# Altium integrated library Linear Technology Power Management Battery Management.IntLib: 626 symbols (part 43 of 56)
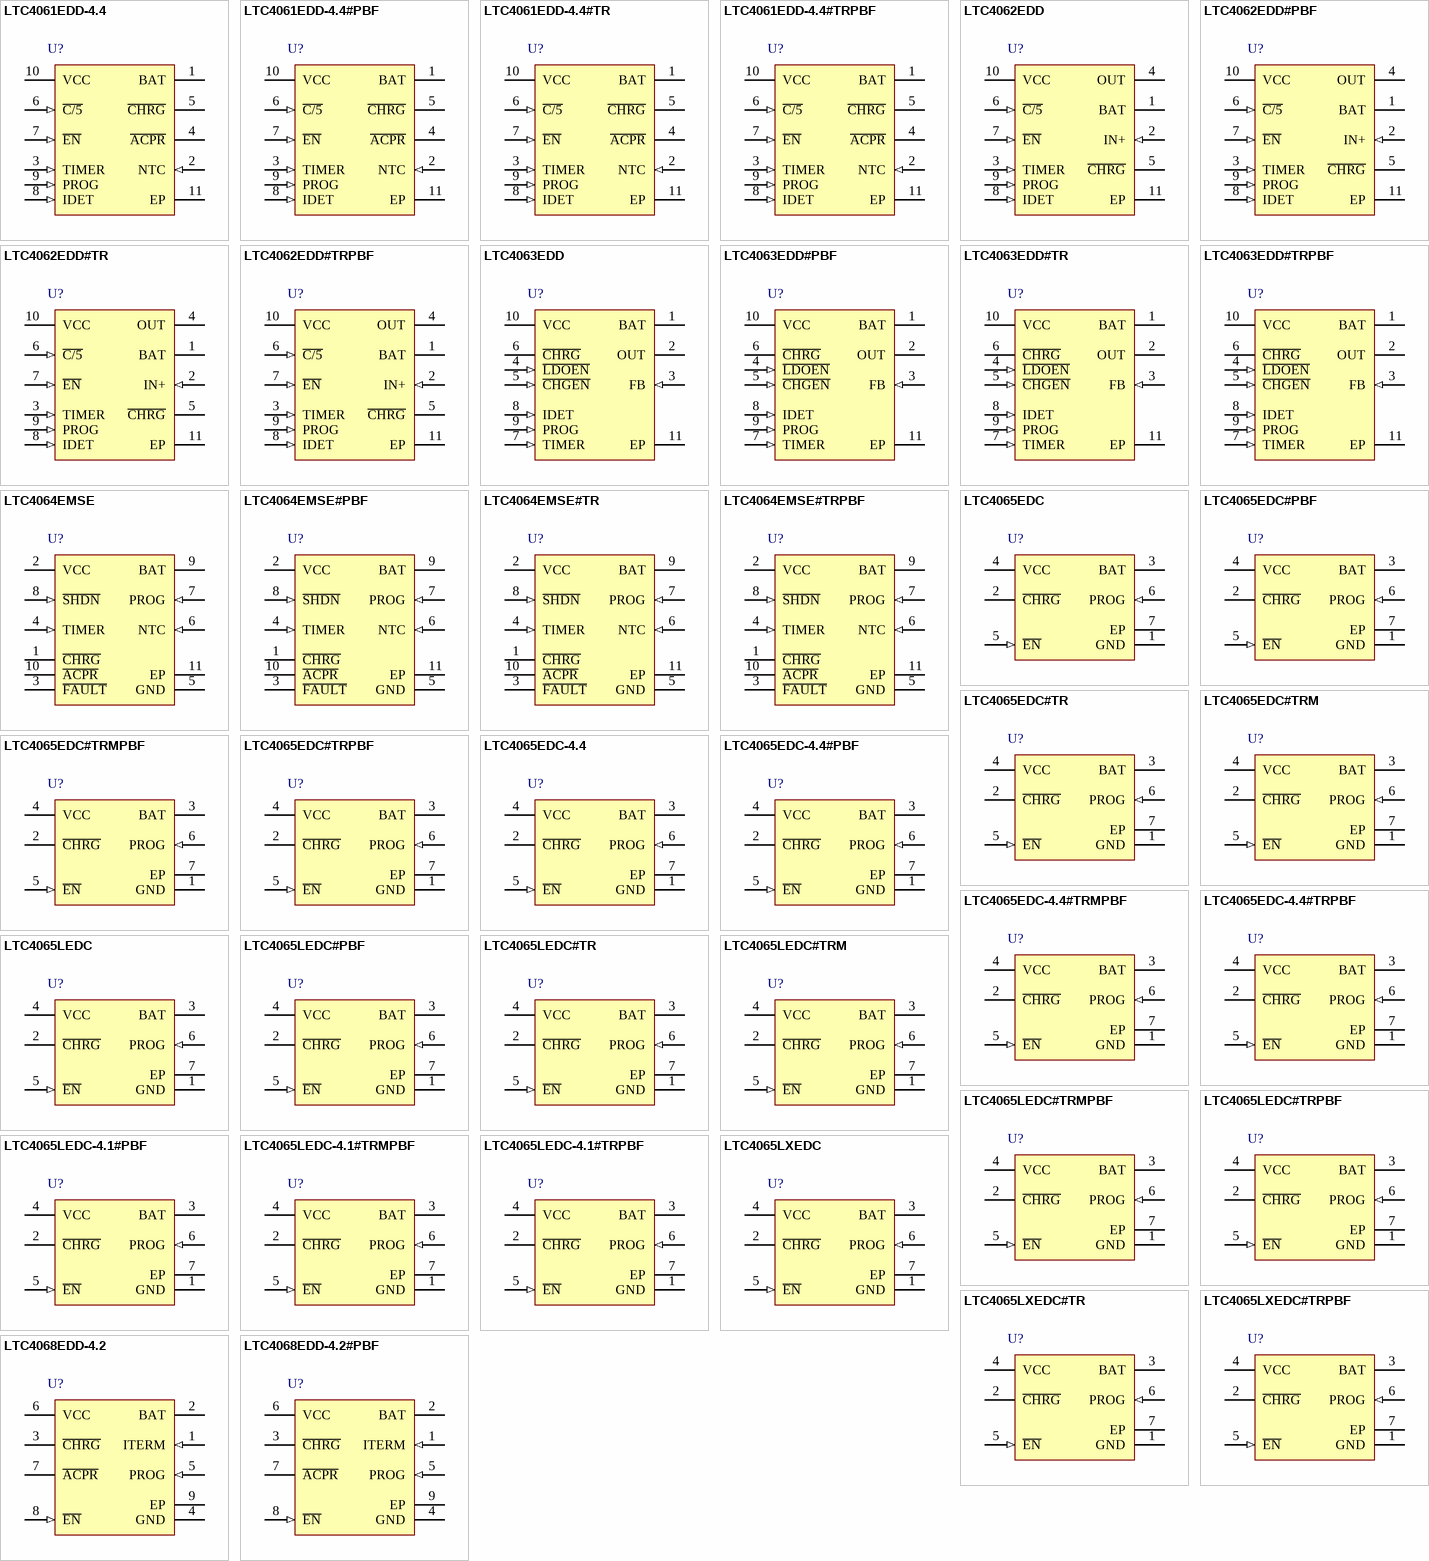
[diagram p64: symbols LTC4061EDD-4.4 to LTC4068EDD-4.2#PBF]

## LTC4062EDD#PBF
designator U?
Standalone Linear Li-Ion Battery Charger with Micropower Comparator, 4.3 to 8 V Vin, 10-pin SON (DD-10), -40 to 85 degC, Pb-Free; Manufacturer: Linear Technology; PartNumber: LTC4062EDD#PBF; Battery Chemistry: Li-Ion, Li-Polymer; Charge Termination: C/x, On-board timer, External; Float Voltage: 4.2 V; Max Charge Current(A): 1; Vin Max(V): 8; Vin Min(V): 4.3; DatasheetVersion: Rev. B; PackageVersion: Rev. C, 06/2010; PackageReference: DD-10; PackageDescription: 10-Pin Plastic DFN, Body 3 x 3 mm, Pitch 0.5 mm; Supplier 1: Digi-Key; Supplier Part Number 1: LTC4062EDD#PBF-ND; Supplier 2: Farnell; Supplier Part Number 2: 1648037; Supplier 3: Newark; Supplier Part Number 3: 58M0900; Number of Cells: 1; RoHS: TRUE; Type of Charger: Linear; Mounting Technology: Surface Mount; Code_JEDEC: MO-229; ComponentLink1Description: Manufacturer URL; ComponentLink1URL: http://www.linear.com/; ComponentLink2Description: Datasheet; ComponentLink2URL: http://cds.linear.com/docs/en/datasheet/4062fb.pdf; ComponentLink3Description: Package Specification; ComponentLink3URL: http://cds.linear.com/docs/en/packaging/DFN_10_05-08-1699.pdf
footprint LT-DD-10_V (SON, 10-Leads, Body 3x3mm, Pitch 0.5mm, Thermal Pad 2.38x1.65mm)
pins: 1 BAT (power) "Charge Current Output. This pin provides charge current to the battery and regulates the final float voltage to 4.2V.", 2 IN+ (in) "Positive Input of the Micropower Comparator. The negative input is tied internally to a precise bandgap voltage reference of 1V. There is approximately 50mV of hysteresis associated with the input comparator threshold (See Datasheet)", 3 TIMER (in) "Timer Program and Termination Select Pin. This pin selects which method is used to terminate the charge cycle. Connecting a capacitor, CTIMER, to ground selects charge time termination.", 4 OUT (hiz) "Low Power Comparator Open-Drain Output. This comparator output pin has two states; pull-down and high impedance. This output can be used as a logic interface or as an LED driver. In the pull-down state, an NMOS transistor (See Datasheet)", 5 ~{CHRG} (hiz) "Open-Drain Charge Status Output. The charge status indicator pin has three states: pull-down, pulse at 6Hz and high impedance. This output can be used as a logic interface or as a LED driver. In the pull-down state, an NMOS (See Datasheet)", 6 ~{C/5} (in) "C\/\5\ Enable Input. Used to control the amount of current drawn by the charger when powered from a USB port. A logic high on the C\/\5\ pin sets the current limit to 100% of the current programmed by the PROG pin. A logic (See Datasheet)", 7 ~{EN} (in) "Charger Enable Input. A logic high on the E\N\ pin places the charger into shutdown mode, where the input quiescent current is less than 50uA. A logic low on this pin enables charging. An internal 3Mohm pull-down resistor to (See Datasheet)", 8 IDET (in) "Current Detection Threshold Program Pin. The current detection threshold, IDETECT, is set by connecting a resistor, RDETECT, to ground.", 9 PROG (in) "Charge Current Program and Charge Current Monitor. The charge current is set by connecting a resistor, RPROG, to ground. When charging in constant current mode, this pin servos to 1V.", 10 VCC (power) "Positive Input Supply Voltage. Provides power to the battery charger. This pin should be bypassed with a 1uF capacitor.", 11 EP (power) "Ground. This pin is the back of the exposed metal pad package and must be soldered to the PCB copper for minimal thermal resistance."

## LTC4062EDD#TR
designator U?
Standalone Linear Li-Ion Battery Charger with Micropower Comparator, 4.3 to 8 V Vin, 10-pin SON (DD-10), -40 to 85 degC, Tape and Reel; Manufacturer: Linear Technology; PartNumber: LTC4062EDD#TR; Battery Chemistry: Li-Ion, Li-Polymer; Charge Termination: C/x, On-board timer, External; Float Voltage: 4.2 V; Max Charge Current(A): 1; Vin Max(V): 8; Vin Min(V): 4.3; DatasheetVersion: Rev. B; PackageVersion: Rev. C, 06/2010; PackageReference: DD-10; PackageDescription: 10-Pin Plastic DFN, Body 3 x 3 mm, Pitch 0.5 mm; Number of Cells: 1; Packing: Tape and Reel; RoHS: FALSE; Type of Charger: Linear; Mounting Technology: Surface Mount; Code_JEDEC: MO-229; ComponentLink1Description: Manufacturer URL; ComponentLink1URL: http://www.linear.com/; ComponentLink2Description: Datasheet; ComponentLink2URL: http://cds.linear.com/docs/en/datasheet/4062fb.pdf; ComponentLink3Description: Package Specification; ComponentLink3URL: http://cds.linear.com/docs/en/packaging/DFN_10_05-08-1699.pdf
footprint LT-DD-10_V (SON, 10-Leads, Body 3x3mm, Pitch 0.5mm, Thermal Pad 2.38x1.65mm)
pins: 1 BAT (power) "Charge Current Output. This pin provides charge current to the battery and regulates the final float voltage to 4.2V.", 2 IN+ (in) "Positive Input of the Micropower Comparator. The negative input is tied internally to a precise bandgap voltage reference of 1V. There is approximately 50mV of hysteresis associated with the input comparator threshold (See Datasheet)", 3 TIMER (in) "Timer Program and Termination Select Pin. This pin selects which method is used to terminate the charge cycle. Connecting a capacitor, CTIMER, to ground selects charge time termination.", 4 OUT (hiz) "Low Power Comparator Open-Drain Output. This comparator output pin has two states; pull-down and high impedance. This output can be used as a logic interface or as an LED driver. In the pull-down state, an NMOS transistor (See Datasheet)", 5 ~{CHRG} (hiz) "Open-Drain Charge Status Output. The charge status indicator pin has three states: pull-down, pulse at 6Hz and high impedance. This output can be used as a logic interface or as a LED driver. In the pull-down state, an NMOS (See Datasheet)", 6 ~{C/5} (in) "C\/\5\ Enable Input. Used to control the amount of current drawn by the charger when powered from a USB port. A logic high on the C\/\5\ pin sets the current limit to 100% of the current programmed by the PROG pin. A logic (See Datasheet)", 7 ~{EN} (in) "Charger Enable Input. A logic high on the E\N\ pin places the charger into shutdown mode, where the input quiescent current is less than 50uA. A logic low on this pin enables charging. An internal 3Mohm pull-down resistor to (See Datasheet)", 8 IDET (in) "Current Detection Threshold Program Pin. The current detection threshold, IDETECT, is set by connecting a resistor, RDETECT, to ground.", 9 PROG (in) "Charge Current Program and Charge Current Monitor. The charge current is set by connecting a resistor, RPROG, to ground. When charging in constant current mode, this pin servos to 1V.", 10 VCC (power) "Positive Input Supply Voltage. Provides power to the battery charger. This pin should be bypassed with a 1uF capacitor.", 11 EP (power) "Ground. This pin is the back of the exposed metal pad package and must be soldered to the PCB copper for minimal thermal resistance."

## LTC4062EDD#TRPBF
designator U?
Standalone Linear Li-Ion Battery Charger with Micropower Comparator, 4.3 to 8 V Vin, 10-pin SON (DD-10), -40 to 85 degC, Pb-Free, Tape and Reel; Manufacturer: Linear Technology; PartNumber: LTC4062EDD#TRPBF; Battery Chemistry: Li-Ion, Li-Polymer; Charge Termination: C/x, On-board timer, External; Float Voltage: 4.2 V; Max Charge Current(A): 1; Vin Max(V): 8; Vin Min(V): 4.3; DatasheetVersion: Rev. B; PackageVersion: Rev. C, 06/2010; PackageReference: DD-10; PackageDescription: 10-Pin Plastic DFN, Body 3 x 3 mm, Pitch 0.5 mm; Supplier 1: Digi-Key; Supplier Part Number 1: LTC4062EDD#TRPBF-ND; Number of Cells: 1; Packing: Tape and Reel; RoHS: TRUE; Type of Charger: Linear; Mounting Technology: Surface Mount; Code_JEDEC: MO-229; ComponentLink1Description: Manufacturer URL; ComponentLink1URL: http://www.linear.com/; ComponentLink2Description: Datasheet; ComponentLink2URL: http://cds.linear.com/docs/en/datasheet/4062fb.pdf; ComponentLink3Description: Package Specification; ComponentLink3URL: http://cds.linear.com/docs/en/packaging/DFN_10_05-08-1699.pdf
footprint LT-DD-10_V (SON, 10-Leads, Body 3x3mm, Pitch 0.5mm, Thermal Pad 2.38x1.65mm)
pins: 1 BAT (power) "Charge Current Output. This pin provides charge current to the battery and regulates the final float voltage to 4.2V.", 2 IN+ (in) "Positive Input of the Micropower Comparator. The negative input is tied internally to a precise bandgap voltage reference of 1V. There is approximately 50mV of hysteresis associated with the input comparator threshold (See Datasheet)", 3 TIMER (in) "Timer Program and Termination Select Pin. This pin selects which method is used to terminate the charge cycle. Connecting a capacitor, CTIMER, to ground selects charge time termination.", 4 OUT (hiz) "Low Power Comparator Open-Drain Output. This comparator output pin has two states; pull-down and high impedance. This output can be used as a logic interface or as an LED driver. In the pull-down state, an NMOS transistor (See Datasheet)", 5 ~{CHRG} (hiz) "Open-Drain Charge Status Output. The charge status indicator pin has three states: pull-down, pulse at 6Hz and high impedance. This output can be used as a logic interface or as a LED driver. In the pull-down state, an NMOS (See Datasheet)", 6 ~{C/5} (in) "C\/\5\ Enable Input. Used to control the amount of current drawn by the charger when powered from a USB port. A logic high on the C\/\5\ pin sets the current limit to 100% of the current programmed by the PROG pin. A logic (See Datasheet)", 7 ~{EN} (in) "Charger Enable Input. A logic high on the E\N\ pin places the charger into shutdown mode, where the input quiescent current is less than 50uA. A logic low on this pin enables charging. An internal 3Mohm pull-down resistor to (See Datasheet)", 8 IDET (in) "Current Detection Threshold Program Pin. The current detection threshold, IDETECT, is set by connecting a resistor, RDETECT, to ground.", 9 PROG (in) "Charge Current Program and Charge Current Monitor. The charge current is set by connecting a resistor, RPROG, to ground. When charging in constant current mode, this pin servos to 1V.", 10 VCC (power) "Positive Input Supply Voltage. Provides power to the battery charger. This pin should be bypassed with a 1uF capacitor.", 11 EP (power) "Ground. This pin is the back of the exposed metal pad package and must be soldered to the PCB copper for minimal thermal resistance."

## LTC4063EDD
designator U?
Standalone Linear Li-Ion Charger with Micropower Low Dropout Linear Regulator, 4.3 to 8 V Vin, 10-pin SON (DD-10), -40 to 85 degC; Manufacturer: Linear Technology; PartNumber: LTC4063EDD; Battery Chemistry: Li-Ion, Li-Polymer; Charge Termination: On-board timer; Float Voltage: 4.2 V; Max Charge Current(A): 1; Vin Max(V): 8; Vin Min(V): 4.3; DatasheetVersion: Rev. C; PackageVersion: Rev. C, 06/2010; PackageReference: DD-10; PackageDescription: 10-Pin Plastic DFN, Body 3 x 3 mm, Pitch 0.5 mm; Supplier 1: Digi-Key; Supplier Part Number 1: LTC4063EDD-ND; Number of Cells: 1; RoHS: FALSE; Type of Charger: Linear; Mounting Technology: Surface Mount; Code_JEDEC: MO-229; ComponentLink1Description: Manufacturer URL; ComponentLink1URL: http://www.linear.com/; ComponentLink2Description: Datasheet; ComponentLink2URL: http://cds.linear.com/docs/en/datasheet/4063fc.pdf; ComponentLink3Description: Package Specification; ComponentLink3URL: http://cds.linear.com/docs/en/packaging/DFN_10_05-08-1699.pdf
footprint LT-DD-10_V (SON, 10-Leads, Body 3x3mm, Pitch 0.5mm, Thermal Pad 2.38x1.65mm)
pins: 1 BAT (power) "Charger Output and Regulator Input. This pin provides charge current to the battery and regulates the final float voltage to 4.2V. This pin also supplies power to the LDO regulator.", 2 OUT (power) "LDO Regulator Output. This pin should be bypassed with a >=2uF low ESR capacitor as close to the pin as possible for best performance. The minimum VOUT is 1.2V.", 3 FB (in) "Regulator Feedback Input. The voltage on this pin is compared to the internal reference voltage (800mV) by the error amplifier to keep the output voltage in regulation. An external resistor divider between OUT and FB sets (See Datasheet)", 4 ~{LDOEN} (in) "LDO Enable Input. A logic high on the L\D\O\E\N\ pin shuts down the LDO. In this state, OUT becomes high impedance and the battery drain current drops to less than 5uA. A logic low on the L\D\O\E\N\ pin enables the LDO (See Datasheet)", 5 ~{CHGEN} (in) "Charger Enable Input. A logic high on the C\H\G\E\N\ pin places the charger into shutdown mode, where the ICC quiescent current is less than 65uA. A logic low on this pin enables battery charging. A 2M pull-down resistor to (See Datasheet)", 6 ~{CHRG} (hiz) "Open-Drain Charge Status Output. The charge status indicator pin has two states: pull-down and high impedance. This output can be used as a logic interface or an LED driver. In the pull-down state, an NMOS transistor capable (See Datasheet)", 7 TIMER (in) "Timer Program and Termination Select Pin. This pin selects which method is used to terminate the charge cycle. Connecting a capacitor, CTIMER, to ground selects Charge Time termination.", 8 IDET (in) "Current Detection Threshold Program Pin. The current detection threshold, IDETECT, is set by connecting a resistor, RDET, to ground.", 9 PROG (in) "Charge Current Program and Charge Current Monitor. The charge current is set by connecting a resistor, RPROG, to ground. When charging in constant current mode, this pin servos to 1V.", 10 VCC (power) "Positive Input Supply Pin. Provides power to the battery charger. This pin should be bypassed with a 1uF capacitor.", 11 EP (power) "Ground. This pin is the back of the Exposed Pad package and must be soldered to the PCB copper for minimal thermal resistance."

## LTC4063EDD#PBF
designator U?
Standalone Linear Li-Ion Charger with Micropower Low Dropout Linear Regulator, 4.3 to 8 V Vin, 10-pin SON (DD-10), -40 to 85 degC, Pb-Free; Manufacturer: Linear Technology; PartNumber: LTC4063EDD#PBF; Battery Chemistry: Li-Ion, Li-Polymer; Charge Termination: On-board timer; Float Voltage: 4.2 V; Max Charge Current(A): 1; Vin Max(V): 8; Vin Min(V): 4.3; DatasheetVersion: Rev. C; PackageVersion: Rev. C, 06/2010; PackageReference: DD-10; PackageDescription: 10-Pin Plastic DFN, Body 3 x 3 mm, Pitch 0.5 mm; Supplier 1: Digi-Key; Supplier Part Number 1: LTC4063EDD#PBF-ND; Supplier 2: Farnell; Supplier Part Number 2: 1648038; Supplier 3: Newark; Supplier Part Number 3: 56M8674; Number of Cells: 1; RoHS: TRUE; Type of Charger: Linear; Mounting Technology: Surface Mount; Code_JEDEC: MO-229; ComponentLink1Description: Manufacturer URL; ComponentLink1URL: http://www.linear.com/; ComponentLink2Description: Datasheet; ComponentLink2URL: http://cds.linear.com/docs/en/datasheet/4063fc.pdf; ComponentLink3Description: Package Specification; ComponentLink3URL: http://cds.linear.com/docs/en/packaging/DFN_10_05-08-1699.pdf
footprint LT-DD-10_V (SON, 10-Leads, Body 3x3mm, Pitch 0.5mm, Thermal Pad 2.38x1.65mm)
pins: 1 BAT (power) "Charger Output and Regulator Input. This pin provides charge current to the battery and regulates the final float voltage to 4.2V. This pin also supplies power to the LDO regulator.", 2 OUT (power) "LDO Regulator Output. This pin should be bypassed with a >=2uF low ESR capacitor as close to the pin as possible for best performance. The minimum VOUT is 1.2V.", 3 FB (in) "Regulator Feedback Input. The voltage on this pin is compared to the internal reference voltage (800mV) by the error amplifier to keep the output voltage in regulation. An external resistor divider between OUT and FB sets (See Datasheet)", 4 ~{LDOEN} (in) "LDO Enable Input. A logic high on the L\D\O\E\N\ pin shuts down the LDO. In this state, OUT becomes high impedance and the battery drain current drops to less than 5uA. A logic low on the L\D\O\E\N\ pin enables the LDO (See Datasheet)", 5 ~{CHGEN} (in) "Charger Enable Input. A logic high on the C\H\G\E\N\ pin places the charger into shutdown mode, where the ICC quiescent current is less than 65uA. A logic low on this pin enables battery charging. A 2M pull-down resistor to (See Datasheet)", 6 ~{CHRG} (hiz) "Open-Drain Charge Status Output. The charge status indicator pin has two states: pull-down and high impedance. This output can be used as a logic interface or an LED driver. In the pull-down state, an NMOS transistor capable (See Datasheet)", 7 TIMER (in) "Timer Program and Termination Select Pin. This pin selects which method is used to terminate the charge cycle. Connecting a capacitor, CTIMER, to ground selects Charge Time termination.", 8 IDET (in) "Current Detection Threshold Program Pin. The current detection threshold, IDETECT, is set by connecting a resistor, RDET, to ground.", 9 PROG (in) "Charge Current Program and Charge Current Monitor. The charge current is set by connecting a resistor, RPROG, to ground. When charging in constant current mode, this pin servos to 1V.", 10 VCC (power) "Positive Input Supply Pin. Provides power to the battery charger. This pin should be bypassed with a 1uF capacitor.", 11 EP (power) "Ground. This pin is the back of the Exposed Pad package and must be soldered to the PCB copper for minimal thermal resistance."

## LTC4063EDD#TR
designator U?
Standalone Linear Li-Ion Charger with Micropower Low Dropout Linear Regulator, 4.3 to 8 V Vin, 10-pin SON (DD-10), -40 to 85 degC, Tape and Reel; Manufacturer: Linear Technology; PartNumber: LTC4063EDD#TR; Battery Chemistry: Li-Ion, Li-Polymer; Charge Termination: On-board timer; Float Voltage: 4.2 V; Max Charge Current(A): 1; Vin Max(V): 8; Vin Min(V): 4.3; DatasheetVersion: Rev. C; PackageVersion: Rev. C, 06/2010; PackageReference: DD-10; PackageDescription: 10-Pin Plastic DFN, Body 3 x 3 mm, Pitch 0.5 mm; Number of Cells: 1; Packing: Tape and Reel; RoHS: FALSE; Type of Charger: Linear; Mounting Technology: Surface Mount; Code_JEDEC: MO-229; ComponentLink1Description: Manufacturer URL; ComponentLink1URL: http://www.linear.com/; ComponentLink2Description: Datasheet; ComponentLink2URL: http://cds.linear.com/docs/en/datasheet/4063fc.pdf; ComponentLink3Description: Package Specification; ComponentLink3URL: http://cds.linear.com/docs/en/packaging/DFN_10_05-08-1699.pdf
footprint LT-DD-10_V (SON, 10-Leads, Body 3x3mm, Pitch 0.5mm, Thermal Pad 2.38x1.65mm)
pins: 1 BAT (power) "Charger Output and Regulator Input. This pin provides charge current to the battery and regulates the final float voltage to 4.2V. This pin also supplies power to the LDO regulator.", 2 OUT (power) "LDO Regulator Output. This pin should be bypassed with a >=2uF low ESR capacitor as close to the pin as possible for best performance. The minimum VOUT is 1.2V.", 3 FB (in) "Regulator Feedback Input. The voltage on this pin is compared to the internal reference voltage (800mV) by the error amplifier to keep the output voltage in regulation. An external resistor divider between OUT and FB sets (See Datasheet)", 4 ~{LDOEN} (in) "LDO Enable Input. A logic high on the L\D\O\E\N\ pin shuts down the LDO. In this state, OUT becomes high impedance and the battery drain current drops to less than 5uA. A logic low on the L\D\O\E\N\ pin enables the LDO (See Datasheet)", 5 ~{CHGEN} (in) "Charger Enable Input. A logic high on the C\H\G\E\N\ pin places the charger into shutdown mode, where the ICC quiescent current is less than 65uA. A logic low on this pin enables battery charging. A 2M pull-down resistor to (See Datasheet)", 6 ~{CHRG} (hiz) "Open-Drain Charge Status Output. The charge status indicator pin has two states: pull-down and high impedance. This output can be used as a logic interface or an LED driver. In the pull-down state, an NMOS transistor capable (See Datasheet)", 7 TIMER (in) "Timer Program and Termination Select Pin. This pin selects which method is used to terminate the charge cycle. Connecting a capacitor, CTIMER, to ground selects Charge Time termination.", 8 IDET (in) "Current Detection Threshold Program Pin. The current detection threshold, IDETECT, is set by connecting a resistor, RDET, to ground.", 9 PROG (in) "Charge Current Program and Charge Current Monitor. The charge current is set by connecting a resistor, RPROG, to ground. When charging in constant current mode, this pin servos to 1V.", 10 VCC (power) "Positive Input Supply Pin. Provides power to the battery charger. This pin should be bypassed with a 1uF capacitor.", 11 EP (power) "Ground. This pin is the back of the Exposed Pad package and must be soldered to the PCB copper for minimal thermal resistance."

## LTC4063EDD#TRPBF
designator U?
Standalone Linear Li-Ion Charger with Micropower Low Dropout Linear Regulator, 4.3 to 8 V Vin, 10-pin SON (DD-10), -40 to 85 degC, Pb-Free, Tape and Reel; Manufacturer: Linear Technology; PartNumber: LTC4063EDD#TRPBF; Battery Chemistry: Li-Ion, Li-Polymer; Charge Termination: On-board timer; Float Voltage: 4.2 V; Max Charge Current(A): 1; Vin Max(V): 8; Vin Min(V): 4.3; DatasheetVersion: Rev. C; PackageVersion: Rev. C, 06/2010; PackageReference: DD-10; PackageDescription: 10-Pin Plastic DFN, Body 3 x 3 mm, Pitch 0.5 mm; Supplier 1: Digi-Key; Supplier Part Number 1: LTC4063EDD#TRPBF-ND; Number of Cells: 1; Packing: Tape and Reel; RoHS: TRUE; Type of Charger: Linear; Mounting Technology: Surface Mount; Code_JEDEC: MO-229; ComponentLink1Description: Manufacturer URL; ComponentLink1URL: http://www.linear.com/; ComponentLink2Description: Datasheet; ComponentLink2URL: http://cds.linear.com/docs/en/datasheet/4063fc.pdf; ComponentLink3Description: Package Specification; ComponentLink3URL: http://cds.linear.com/docs/en/packaging/DFN_10_05-08-1699.pdf
footprint LT-DD-10_V (SON, 10-Leads, Body 3x3mm, Pitch 0.5mm, Thermal Pad 2.38x1.65mm)
pins: 1 BAT (power) "Charger Output and Regulator Input. This pin provides charge current to the battery and regulates the final float voltage to 4.2V. This pin also supplies power to the LDO regulator.", 2 OUT (power) "LDO Regulator Output. This pin should be bypassed with a >=2uF low ESR capacitor as close to the pin as possible for best performance. The minimum VOUT is 1.2V.", 3 FB (in) "Regulator Feedback Input. The voltage on this pin is compared to the internal reference voltage (800mV) by the error amplifier to keep the output voltage in regulation. An external resistor divider between OUT and FB sets (See Datasheet)", 4 ~{LDOEN} (in) "LDO Enable Input. A logic high on the L\D\O\E\N\ pin shuts down the LDO. In this state, OUT becomes high impedance and the battery drain current drops to less than 5uA. A logic low on the L\D\O\E\N\ pin enables the LDO (See Datasheet)", 5 ~{CHGEN} (in) "Charger Enable Input. A logic high on the C\H\G\E\N\ pin places the charger into shutdown mode, where the ICC quiescent current is less than 65uA. A logic low on this pin enables battery charging. A 2M pull-down resistor to (See Datasheet)", 6 ~{CHRG} (hiz) "Open-Drain Charge Status Output. The charge status indicator pin has two states: pull-down and high impedance. This output can be used as a logic interface or an LED driver. In the pull-down state, an NMOS transistor capable (See Datasheet)", 7 TIMER (in) "Timer Program and Termination Select Pin. This pin selects which method is used to terminate the charge cycle. Connecting a capacitor, CTIMER, to ground selects Charge Time termination.", 8 IDET (in) "Current Detection Threshold Program Pin. The current detection threshold, IDETECT, is set by connecting a resistor, RDET, to ground.", 9 PROG (in) "Charge Current Program and Charge Current Monitor. The charge current is set by connecting a resistor, RPROG, to ground. When charging in constant current mode, this pin servos to 1V.", 10 VCC (power) "Positive Input Supply Pin. Provides power to the battery charger. This pin should be bypassed with a 1uF capacitor.", 11 EP (power) "Ground. This pin is the back of the Exposed Pad package and must be soldered to the PCB copper for minimal thermal resistance."

## LTC4064EMSE
designator U?
Monolithic Linear Charger for Back-Up Li-Ion Battery, 4.25 to 6.5 V Vin, 10-pin SOP (MSE-10-EDP), -40 to 85 degC; Manufacturer: Linear Technology; PartNumber: LTC4064EMSE; Battery Chemistry: Li-Ion, Li-Polymer; Charge Termination: On-board timer; Float Voltage: 4.2 V; Max Charge Current(A): 1; Vin Max(V): 6.5; Vin Min(V): 4.25; PackageVersion: Rev. C, 08/2009; PackageReference: MSE-10; PackageDescription: 10-Pin Plastic MSOP, Exposed Die Pad, Body 3 x 3 mm, Pitch 0.5 mm; Supplier 1: Digi-Key; Supplier Part Number 1: LTC4064EMSE-ND; Number of Cells: 1; RoHS: FALSE; Type of Charger: Linear; Mounting Technology: Surface Mount; ComponentLink1Description: Manufacturer URL; ComponentLink1URL: http://www.linear.com/; ComponentLink2Description: Datasheet; ComponentLink2URL: http://cds.linear.com/docs/en/datasheet/4064fs.pdf; ComponentLink3Description: Package Specification; ComponentLink3URL: http://cds.linear.com/docs/en/datasheet/3481fc.pdf
footprint LT-MSE-10-EDP-2060x1830TP_N (SOP, 10-Leads, Body 3.1x3.1mm, Pitch 0.5mm, Thermal Pad 2.17x1.94mm, IPC Medium Density)
footprint LT-MSE-10-EDP-2060x1830TP_L (SOP, 10-Leads, Body 3.1x3.1mm, Pitch 0.5mm, Thermal Pad 2.17x1.94mm, IPC High Density)
footprint LT-MSE-10-EDP-2060x1830TP_M (SOP, 10-Leads, Body 3.1x3.1mm, Pitch 0.5mm, Thermal Pad 2.17x1.94mm, IPC Low Density)
pins: 1 ~{CHRG} (hiz) "Open-Drain Charge Status Output. When the battery is being charged, the C\H\R\G\ pin is pulled low by an internal N-channel MOSFET. When the charge current drops to 10% of the full-scale current, the N-channel MOSFET latches (See Datasheet)", 2 VCC (power), 3 ~{FAULT} (oc), 4 TIMER (in), 5 GND (power) "Ground. The exposed backside of the package is also ground and must be soldered to the PC board for maximum heat transfer.", 6 NTC (in), 7 PROG (in), 8 ~{SHDN} (in), 9 BAT (power) "Charge Current Output. A bypass capacitor of at least 1uF with a 1ohm series resistor is required to keep the loop stable when the battery is not present. A precision internal resistor divider sets the final float potential (See Datasheet)", 10 ~{ACPR} (hiz) "Open-Drain Power Supply Status Output. When VCC is greater than the undervoltage lockout threshold and at least 35mV above VBAT, the A\C\P\R\ pin will pull to ground. Otherwise, the pin is high impedance.", 11 EP (power) "Ground. The exposed backside of the package is also ground and must be soldered to the PC board for maximum heat transfer."

## LTC4064EMSE#PBF
designator U?
Monolithic Linear Charger for Back-Up Li-Ion Battery, 4.25 to 6.5 V Vin, 10-pin SOP (MSE-10-EDP), -40 to 85 degC, Pb-Free; Manufacturer: Linear Technology; PartNumber: LTC4064EMSE#PBF; Battery Chemistry: Li-Ion, Li-Polymer; Charge Termination: On-board timer; Float Voltage: 4.2 V; Max Charge Current(A): 1; Vin Max(V): 6.5; Vin Min(V): 4.25; PackageVersion: Rev. C, 08/2009; PackageReference: MSE-10; PackageDescription: 10-Pin Plastic MSOP, Exposed Die Pad, Body 3 x 3 mm, Pitch 0.5 mm; Supplier 1: Digi-Key; Supplier Part Number 1: LTC4064EMSE#PBF-ND; Supplier 2: Farnell; Supplier Part Number 2: 1648039; Supplier 3: Newark; Supplier Part Number 3: 58M0904; Number of Cells: 1; RoHS: TRUE; Type of Charger: Linear; Mounting Technology: Surface Mount; ComponentLink1Description: Manufacturer URL; ComponentLink1URL: http://www.linear.com/; ComponentLink2Description: Datasheet; ComponentLink2URL: http://cds.linear.com/docs/en/datasheet/4064fs.pdf; ComponentLink3Description: Package Specification; ComponentLink3URL: http://cds.linear.com/docs/en/datasheet/3481fc.pdf
footprint LT-MSE-10-EDP-2060x1830TP_N (SOP, 10-Leads, Body 3.1x3.1mm, Pitch 0.5mm, Thermal Pad 2.17x1.94mm, IPC Medium Density)
footprint LT-MSE-10-EDP-2060x1830TP_L (SOP, 10-Leads, Body 3.1x3.1mm, Pitch 0.5mm, Thermal Pad 2.17x1.94mm, IPC High Density)
footprint LT-MSE-10-EDP-2060x1830TP_M (SOP, 10-Leads, Body 3.1x3.1mm, Pitch 0.5mm, Thermal Pad 2.17x1.94mm, IPC Low Density)
pins: 1 ~{CHRG} (hiz) "Open-Drain Charge Status Output. When the battery is being charged, the C\H\R\G\ pin is pulled low by an internal N-channel MOSFET. When the charge current drops to 10% of the full-scale current, the N-channel MOSFET latches (See Datasheet)", 2 VCC (power), 3 ~{FAULT} (oc), 4 TIMER (in), 5 GND (power) "Ground. The exposed backside of the package is also ground and must be soldered to the PC board for maximum heat transfer.", 6 NTC (in), 7 PROG (in), 8 ~{SHDN} (in), 9 BAT (power) "Charge Current Output. A bypass capacitor of at least 1uF with a 1ohm series resistor is required to keep the loop stable when the battery is not present. A precision internal resistor divider sets the final float potential (See Datasheet)", 10 ~{ACPR} (hiz) "Open-Drain Power Supply Status Output. When VCC is greater than the undervoltage lockout threshold and at least 35mV above VBAT, the A\C\P\R\ pin will pull to ground. Otherwise, the pin is high impedance.", 11 EP (power) "Ground. The exposed backside of the package is also ground and must be soldered to the PC board for maximum heat transfer."

## LTC4064EMSE#TR
designator U?
Monolithic Linear Charger for Back-Up Li-Ion Battery, 4.25 to 6.5 V Vin, 10-pin SOP (MSE-10-EDP), -40 to 85 degC, Tape and Reel; Manufacturer: Linear Technology; PartNumber: LTC4064EMSE#TR; Battery Chemistry: Li-Ion, Li-Polymer; Charge Termination: On-board timer; Float Voltage: 4.2 V; Max Charge Current(A): 1; Vin Max(V): 6.5; Vin Min(V): 4.25; PackageVersion: Rev. C, 08/2009; PackageReference: MSE-10; PackageDescription: 10-Pin Plastic MSOP, Exposed Die Pad, Body 3 x 3 mm, Pitch 0.5 mm; Supplier 1: Digi-Key; Supplier Part Number 1: LTC4064EMSE#TR-ND; Number of Cells: 1; Packing: Tape and Reel; RoHS: FALSE; Type of Charger: Linear; Mounting Technology: Surface Mount; ComponentLink1Description: Manufacturer URL; ComponentLink1URL: http://www.linear.com/; ComponentLink2Description: Datasheet; ComponentLink2URL: http://cds.linear.com/docs/en/datasheet/4064fs.pdf; ComponentLink3Description: Package Specification; ComponentLink3URL: http://cds.linear.com/docs/en/datasheet/3481fc.pdf
footprint LT-MSE-10-EDP-2060x1830TP_N (SOP, 10-Leads, Body 3.1x3.1mm, Pitch 0.5mm, Thermal Pad 2.17x1.94mm, IPC Medium Density)
footprint LT-MSE-10-EDP-2060x1830TP_L (SOP, 10-Leads, Body 3.1x3.1mm, Pitch 0.5mm, Thermal Pad 2.17x1.94mm, IPC High Density)
footprint LT-MSE-10-EDP-2060x1830TP_M (SOP, 10-Leads, Body 3.1x3.1mm, Pitch 0.5mm, Thermal Pad 2.17x1.94mm, IPC Low Density)
pins: 1 ~{CHRG} (hiz) "Open-Drain Charge Status Output. When the battery is being charged, the C\H\R\G\ pin is pulled low by an internal N-channel MOSFET. When the charge current drops to 10% of the full-scale current, the N-channel MOSFET latches (See Datasheet)", 2 VCC (power), 3 ~{FAULT} (oc), 4 TIMER (in), 5 GND (power) "Ground. The exposed backside of the package is also ground and must be soldered to the PC board for maximum heat transfer.", 6 NTC (in), 7 PROG (in), 8 ~{SHDN} (in), 9 BAT (power) "Charge Current Output. A bypass capacitor of at least 1uF with a 1ohm series resistor is required to keep the loop stable when the battery is not present. A precision internal resistor divider sets the final float potential (See Datasheet)", 10 ~{ACPR} (hiz) "Open-Drain Power Supply Status Output. When VCC is greater than the undervoltage lockout threshold and at least 35mV above VBAT, the A\C\P\R\ pin will pull to ground. Otherwise, the pin is high impedance.", 11 EP (power) "Ground. The exposed backside of the package is also ground and must be soldered to the PC board for maximum heat transfer."

## LTC4064EMSE#TRPBF
designator U?
Monolithic Linear Charger for Back-Up Li-Ion Battery, 4.25 to 6.5 V Vin, 10-pin SOP (MSE-10-EDP), -40 to 85 degC, Pb-Free, Tape and Reel; Manufacturer: Linear Technology; PartNumber: LTC4064EMSE#TRPBF; Battery Chemistry: Li-Ion, Li-Polymer; Charge Termination: On-board timer; Float Voltage: 4.2 V; Max Charge Current(A): 1; Vin Max(V): 6.5; Vin Min(V): 4.25; PackageVersion: Rev. C, 08/2009; PackageReference: MSE-10; PackageDescription: 10-Pin Plastic MSOP, Exposed Die Pad, Body 3 x 3 mm, Pitch 0.5 mm; Supplier 1: Digi-Key; Supplier Part Number 1: LTC4064EMSE#TRPBF-ND; Number of Cells: 1; Packing: Tape and Reel; RoHS: TRUE; Type of Charger: Linear; Mounting Technology: Surface Mount; ComponentLink1Description: Manufacturer URL; ComponentLink1URL: http://www.linear.com/; ComponentLink2Description: Datasheet; ComponentLink2URL: http://cds.linear.com/docs/en/datasheet/4064fs.pdf; ComponentLink3Description: Package Specification; ComponentLink3URL: http://cds.linear.com/docs/en/datasheet/3481fc.pdf
footprint LT-MSE-10-EDP-2060x1830TP_N (SOP, 10-Leads, Body 3.1x3.1mm, Pitch 0.5mm, Thermal Pad 2.17x1.94mm, IPC Medium Density)
footprint LT-MSE-10-EDP-2060x1830TP_L (SOP, 10-Leads, Body 3.1x3.1mm, Pitch 0.5mm, Thermal Pad 2.17x1.94mm, IPC High Density)
footprint LT-MSE-10-EDP-2060x1830TP_M (SOP, 10-Leads, Body 3.1x3.1mm, Pitch 0.5mm, Thermal Pad 2.17x1.94mm, IPC Low Density)
pins: 1 ~{CHRG} (hiz) "Open-Drain Charge Status Output. When the battery is being charged, the C\H\R\G\ pin is pulled low by an internal N-channel MOSFET. When the charge current drops to 10% of the full-scale current, the N-channel MOSFET latches (See Datasheet)", 2 VCC (power), 3 ~{FAULT} (oc), 4 TIMER (in), 5 GND (power) "Ground. The exposed backside of the package is also ground and must be soldered to the PC board for maximum heat transfer.", 6 NTC (in), 7 PROG (in), 8 ~{SHDN} (in), 9 BAT (power) "Charge Current Output. A bypass capacitor of at least 1uF with a 1ohm series resistor is required to keep the loop stable when the battery is not present. A precision internal resistor divider sets the final float potential (See Datasheet)", 10 ~{ACPR} (hiz) "Open-Drain Power Supply Status Output. When VCC is greater than the undervoltage lockout threshold and at least 35mV above VBAT, the A\C\P\R\ pin will pull to ground. Otherwise, the pin is high impedance.", 11 EP (power) "Ground. The exposed backside of the package is also ground and must be soldered to the PC board for maximum heat transfer."

## LTC4065EDC
designator U?
Standalone 750 mA Li-Ion Battery Charger, 3.75 to 5.5 V Vin, 6-pin SON (DC6-6), -40 to 85 degC; Manufacturer: Linear Technology; PartNumber: LTC4065EDC; Battery Chemistry: Li-Ion, Li-Polymer; Charge Termination: On-board timer; Float Voltage: 4.2 V; Max Charge Current(A): 0.75; Number of Cells: 1; Type of Charger: Linear; Vin Max(V): 5.5; Vin Min(V): 3.75; DatasheetVersion: Rev. B; PackageVersion: Rev. B, 06/2010; PackageReference: DC6-6; PackageDescription: 6-Pin Plastic DFN, Body 2 x 2 mm, Pitch 0.5 mm; RoHS: FALSE; Mounting Technology: Surface Mount; Code_JEDEC: MO-229; ComponentLink1Description: Manufacturer URL; ComponentLink1URL: http://www.linear.com/; ComponentLink2Description: Datasheet; ComponentLink2URL: http://cds.linear.com/docs/en/datasheet/4065fb.pdf; ComponentLink3Description: Package Specification; ComponentLink3URL: http://cds.linear.com/docs/en/packaging/DFN_6_05-08-1703.pdf
footprint LT-DC6-6_V (SON, 6-Leads, Body 2x2mm, Pitch 0.5mm, Thermal Pad 1.42x0.61mm)
pins: 1 GND (power) "Ground.", 2 ~{CHRG} (hiz) "Open-Drain Charge Status Output. The charge status indicator pin has three states: pull-down, pulse at 2Hz and high impedance state. This output can be used as a logic interface or as an LED driver. When the battery is being (See Datasheet)", 3 BAT (power) "Charge Current Output. Provides charge current to the battery and regulates the final float voltage to 4.4V. An internal precision resistor divider on this pin sets the float voltage and is disconnected in shutdown mode.", 4 VCC (power) "Positive Input Supply Voltage. This pin provides power to the charger. VCC can range from 3.75V to 5.5V. This pin should be bypassed with at least a 1uF capacitor. When VCC is within 30mV of the BAT pin voltage, the (See Datasheet)", 5 ~{EN} (in) "Enable Input Pin. Pulling this pin above the manual shutdown threshold (VMS is typically 0.82V) puts the LTC4065-4.4 in shutdown mode. In shutdown mode, the LTC4065-4.4 has less than 20uA supply current and less than 1uA (See Datasheet)", 6 PROG (in) "Charge Current Program and Charge Current Monitor Pin. Connecting a 1% resistor, RPROG, to ground programs the charge current. When charging in constant-current mode, this pin servos to 1V.", 7 EP (power) "Ground. The Exposed Pad must be soldered to the PCB ground to provide both electrical contact and rated thermal performance."

## LTC4065EDC#PBF
designator U?
Standalone 750 mA Li-Ion Battery Charger, 3.75 to 5.5 V Vin, 6-pin SON (DC6-6), -40 to 85 degC, Pb-Free; Manufacturer: Linear Technology; PartNumber: LTC4065EDC#PBF; Battery Chemistry: Li-Ion, Li-Polymer; Charge Termination: On-board timer; Float Voltage: 4.2 V; Max Charge Current(A): 0.75; Number of Cells: 1; Type of Charger: Linear; Vin Max(V): 5.5; Vin Min(V): 3.75; DatasheetVersion: Rev. B; PackageVersion: Rev. B, 06/2010; PackageReference: DC6-6; PackageDescription: 6-Pin Plastic DFN, Body 2 x 2 mm, Pitch 0.5 mm; Supplier 1: Farnell; Supplier Part Number 1: 2308153; Supplier 2: Newark; Supplier Part Number 2: 78T3301; RoHS: TRUE; Mounting Technology: Surface Mount; Code_JEDEC: MO-229; ComponentLink1Description: Manufacturer URL; ComponentLink1URL: http://www.linear.com/; ComponentLink2Description: Datasheet; ComponentLink2URL: http://cds.linear.com/docs/en/datasheet/4065fb.pdf; ComponentLink3Description: Package Specification; ComponentLink3URL: http://cds.linear.com/docs/en/packaging/DFN_6_05-08-1703.pdf
footprint LT-DC6-6_V (SON, 6-Leads, Body 2x2mm, Pitch 0.5mm, Thermal Pad 1.42x0.61mm)
pins: 1 GND (power) "Ground.", 2 ~{CHRG} (hiz) "Open-Drain Charge Status Output. The charge status indicator pin has three states: pull-down, pulse at 2Hz and high impedance state. This output can be used as a logic interface or as an LED driver. When the battery is being (See Datasheet)", 3 BAT (power) "Charge Current Output. Provides charge current to the battery and regulates the final float voltage to 4.4V. An internal precision resistor divider on this pin sets the float voltage and is disconnected in shutdown mode.", 4 VCC (power) "Positive Input Supply Voltage. This pin provides power to the charger. VCC can range from 3.75V to 5.5V. This pin should be bypassed with at least a 1uF capacitor. When VCC is within 30mV of the BAT pin voltage, the (See Datasheet)", 5 ~{EN} (in) "Enable Input Pin. Pulling this pin above the manual shutdown threshold (VMS is typically 0.82V) puts the LTC4065-4.4 in shutdown mode. In shutdown mode, the LTC4065-4.4 has less than 20uA supply current and less than 1uA (See Datasheet)", 6 PROG (in) "Charge Current Program and Charge Current Monitor Pin. Connecting a 1% resistor, RPROG, to ground programs the charge current. When charging in constant-current mode, this pin servos to 1V.", 7 EP (power) "Ground. The Exposed Pad must be soldered to the PCB ground to provide both electrical contact and rated thermal performance."

## LTC4065EDC#TR
designator U?
Standalone 750 mA Li-Ion Battery Charger, 3.75 to 5.5 V Vin, 6-pin SON (DC6-6), -40 to 85 degC, Tape and Reel; Manufacturer: Linear Technology; PartNumber: LTC4065EDC#TR; Battery Chemistry: Li-Ion, Li-Polymer; Charge Termination: On-board timer; Float Voltage: 4.2 V; Max Charge Current(A): 0.75; Number of Cells: 1; Type of Charger: Linear; Vin Max(V): 5.5; Vin Min(V): 3.75; DatasheetVersion: Rev. B; PackageVersion: Rev. B, 06/2010; PackageReference: DC6-6; PackageDescription: 6-Pin Plastic DFN, Body 2 x 2 mm, Pitch 0.5 mm; Supplier 1: Digi-Key; Supplier Part Number 1: LTC4065EDC#TR-ND; Packing: Tape and Reel; RoHS: FALSE; Mounting Technology: Surface Mount; Code_JEDEC: MO-229; ComponentLink1Description: Manufacturer URL; ComponentLink1URL: http://www.linear.com/; ComponentLink2Description: Datasheet; ComponentLink2URL: http://cds.linear.com/docs/en/datasheet/4065fb.pdf; ComponentLink3Description: Package Specification; ComponentLink3URL: http://cds.linear.com/docs/en/packaging/DFN_6_05-08-1703.pdf
footprint LT-DC6-6_V (SON, 6-Leads, Body 2x2mm, Pitch 0.5mm, Thermal Pad 1.42x0.61mm)
pins: 1 GND (power) "Ground.", 2 ~{CHRG} (hiz) "Open-Drain Charge Status Output. The charge status indicator pin has three states: pull-down, pulse at 2Hz and high impedance state. This output can be used as a logic interface or as an LED driver. When the battery is being (See Datasheet)", 3 BAT (power) "Charge Current Output. Provides charge current to the battery and regulates the final float voltage to 4.4V. An internal precision resistor divider on this pin sets the float voltage and is disconnected in shutdown mode.", 4 VCC (power) "Positive Input Supply Voltage. This pin provides power to the charger. VCC can range from 3.75V to 5.5V. This pin should be bypassed with at least a 1uF capacitor. When VCC is within 30mV of the BAT pin voltage, the (See Datasheet)", 5 ~{EN} (in) "Enable Input Pin. Pulling this pin above the manual shutdown threshold (VMS is typically 0.82V) puts the LTC4065-4.4 in shutdown mode. In shutdown mode, the LTC4065-4.4 has less than 20uA supply current and less than 1uA (See Datasheet)", 6 PROG (in) "Charge Current Program and Charge Current Monitor Pin. Connecting a 1% resistor, RPROG, to ground programs the charge current. When charging in constant-current mode, this pin servos to 1V.", 7 EP (power) "Ground. The Exposed Pad must be soldered to the PCB ground to provide both electrical contact and rated thermal performance."

## LTC4065EDC#TRM
designator U?
Standalone 750 mA Li-Ion Battery Charger, 3.75 to 5.5 V Vin, 6-pin SON (DC6-6), -40 to 85 degC, Mini Tape and Reel; Manufacturer: Linear Technology; PartNumber: LTC4065EDC#TRM; Battery Chemistry: Li-Ion, Li-Polymer; Charge Termination: On-board timer; Float Voltage: 4.2 V; Max Charge Current(A): 0.75; Number of Cells: 1; Type of Charger: Linear; Vin Max(V): 5.5; Vin Min(V): 3.75; DatasheetVersion: Rev. B; PackageVersion: Rev. B, 06/2010; PackageReference: DC6-6; PackageDescription: 6-Pin Plastic DFN, Body 2 x 2 mm, Pitch 0.5 mm; Supplier 1: Digi-Key; Supplier Part Number 1: LTC4065EDC#TRM-ND; Packing: Mini Tape and Reel; RoHS: FALSE; Mounting Technology: Surface Mount; Code_JEDEC: MO-229; ComponentLink1Description: Manufacturer URL; ComponentLink1URL: http://www.linear.com/; ComponentLink2Description: Datasheet; ComponentLink2URL: http://cds.linear.com/docs/en/datasheet/4065fb.pdf; ComponentLink3Description: Package Specification; ComponentLink3URL: http://cds.linear.com/docs/en/packaging/DFN_6_05-08-1703.pdf
footprint LT-DC6-6_V (SON, 6-Leads, Body 2x2mm, Pitch 0.5mm, Thermal Pad 1.42x0.61mm)
pins: 1 GND (power) "Ground.", 2 ~{CHRG} (hiz) "Open-Drain Charge Status Output. The charge status indicator pin has three states: pull-down, pulse at 2Hz and high impedance state. This output can be used as a logic interface or as an LED driver. When the battery is being (See Datasheet)", 3 BAT (power) "Charge Current Output. Provides charge current to the battery and regulates the final float voltage to 4.4V. An internal precision resistor divider on this pin sets the float voltage and is disconnected in shutdown mode.", 4 VCC (power) "Positive Input Supply Voltage. This pin provides power to the charger. VCC can range from 3.75V to 5.5V. This pin should be bypassed with at least a 1uF capacitor. When VCC is within 30mV of the BAT pin voltage, the (See Datasheet)", 5 ~{EN} (in) "Enable Input Pin. Pulling this pin above the manual shutdown threshold (VMS is typically 0.82V) puts the LTC4065-4.4 in shutdown mode. In shutdown mode, the LTC4065-4.4 has less than 20uA supply current and less than 1uA (See Datasheet)", 6 PROG (in) "Charge Current Program and Charge Current Monitor Pin. Connecting a 1% resistor, RPROG, to ground programs the charge current. When charging in constant-current mode, this pin servos to 1V.", 7 EP (power) "Ground. The Exposed Pad must be soldered to the PCB ground to provide both electrical contact and rated thermal performance."

## LTC4065EDC#TRMPBF
designator U?
Standalone 750 mA Li-Ion Battery Charger, 3.75 to 5.5 V Vin, 6-pin SON (DC6-6), -40 to 85 degC, Pb-Free, Mini Tape and Reel; Manufacturer: Linear Technology; PartNumber: LTC4065EDC#TRMPBF; Battery Chemistry: Li-Ion, Li-Polymer; Charge Termination: On-board timer; Float Voltage: 4.2 V; Max Charge Current(A): 0.75; Number of Cells: 1; Type of Charger: Linear; Vin Max(V): 5.5; Vin Min(V): 3.75; DatasheetVersion: Rev. B; PackageVersion: Rev. B, 06/2010; PackageReference: DC6-6; PackageDescription: 6-Pin Plastic DFN, Body 2 x 2 mm, Pitch 0.5 mm; Supplier 1: Digi-Key; Supplier Part Number 1: LTC4065EDC#TRMPBFTR-ND; Supplier 2: Digi-Key; Supplier Part Number 2: LTC4065EDC#TRMPBFCT-ND; Supplier 3: Digi-Key; Supplier Part Number 3: LTC4065EDC#TRMPBFDKR-ND; Supplier 4: Farnell; Supplier Part Number 4: 1663910RL; Supplier 5: Farnell; Supplier Part Number 5: 1663910; Supplier 6: Newark; Supplier Part Number 6: 58M0915; Packing: Mini Tape and Reel; RoHS: TRUE; Mounting Technology: Surface Mount; Code_JEDEC: MO-229; ComponentLink1Description: Manufacturer URL; ComponentLink1URL: http://www.linear.com/; ComponentLink2Description: Datasheet; ComponentLink2URL: http://cds.linear.com/docs/en/datasheet/4065fb.pdf; ComponentLink3Description: Package Specification; ComponentLink3URL: http://cds.linear.com/docs/en/packaging/DFN_6_05-08-1703.pdf
footprint LT-DC6-6_V (SON, 6-Leads, Body 2x2mm, Pitch 0.5mm, Thermal Pad 1.42x0.61mm)
pins: 1 GND (power) "Ground.", 2 ~{CHRG} (hiz) "Open-Drain Charge Status Output. The charge status indicator pin has three states: pull-down, pulse at 2Hz and high impedance state. This output can be used as a logic interface or as an LED driver. When the battery is being (See Datasheet)", 3 BAT (power) "Charge Current Output. Provides charge current to the battery and regulates the final float voltage to 4.4V. An internal precision resistor divider on this pin sets the float voltage and is disconnected in shutdown mode.", 4 VCC (power) "Positive Input Supply Voltage. This pin provides power to the charger. VCC can range from 3.75V to 5.5V. This pin should be bypassed with at least a 1uF capacitor. When VCC is within 30mV of the BAT pin voltage, the (See Datasheet)", 5 ~{EN} (in) "Enable Input Pin. Pulling this pin above the manual shutdown threshold (VMS is typically 0.82V) puts the LTC4065-4.4 in shutdown mode. In shutdown mode, the LTC4065-4.4 has less than 20uA supply current and less than 1uA (See Datasheet)", 6 PROG (in) "Charge Current Program and Charge Current Monitor Pin. Connecting a 1% resistor, RPROG, to ground programs the charge current. When charging in constant-current mode, this pin servos to 1V.", 7 EP (power) "Ground. The Exposed Pad must be soldered to the PCB ground to provide both electrical contact and rated thermal performance."

## LTC4065EDC#TRPBF
designator U?
Standalone 750 mA Li-Ion Battery Charger, 3.75 to 5.5 V Vin, 6-pin SON (DC6-6), -40 to 85 degC, Pb-Free, Tape and Reel; Manufacturer: Linear Technology; PartNumber: LTC4065EDC#TRPBF; Battery Chemistry: Li-Ion, Li-Polymer; Charge Termination: On-board timer; Float Voltage: 4.2 V; Max Charge Current(A): 0.75; Number of Cells: 1; Type of Charger: Linear; Vin Max(V): 5.5; Vin Min(V): 3.75; DatasheetVersion: Rev. B; PackageVersion: Rev. B, 06/2010; PackageReference: DC6-6; PackageDescription: 6-Pin Plastic DFN, Body 2 x 2 mm, Pitch 0.5 mm; Supplier 1: Digi-Key; Supplier Part Number 1: LTC4065EDC#TRPBF-ND; Supplier 2: Newark; Supplier Part Number 2: 58M0916; Packing: Tape and Reel; RoHS: TRUE; Mounting Technology: Surface Mount; Code_JEDEC: MO-229; ComponentLink1Description: Manufacturer URL; ComponentLink1URL: http://www.linear.com/; ComponentLink2Description: Datasheet; ComponentLink2URL: http://cds.linear.com/docs/en/datasheet/4065fb.pdf; ComponentLink3Description: Package Specification; ComponentLink3URL: http://cds.linear.com/docs/en/packaging/DFN_6_05-08-1703.pdf
footprint LT-DC6-6_V (SON, 6-Leads, Body 2x2mm, Pitch 0.5mm, Thermal Pad 1.42x0.61mm)
pins: 1 GND (power) "Ground.", 2 ~{CHRG} (hiz) "Open-Drain Charge Status Output. The charge status indicator pin has three states: pull-down, pulse at 2Hz and high impedance state. This output can be used as a logic interface or as an LED driver. When the battery is being (See Datasheet)", 3 BAT (power) "Charge Current Output. Provides charge current to the battery and regulates the final float voltage to 4.4V. An internal precision resistor divider on this pin sets the float voltage and is disconnected in shutdown mode.", 4 VCC (power) "Positive Input Supply Voltage. This pin provides power to the charger. VCC can range from 3.75V to 5.5V. This pin should be bypassed with at least a 1uF capacitor. When VCC is within 30mV of the BAT pin voltage, the (See Datasheet)", 5 ~{EN} (in) "Enable Input Pin. Pulling this pin above the manual shutdown threshold (VMS is typically 0.82V) puts the LTC4065-4.4 in shutdown mode. In shutdown mode, the LTC4065-4.4 has less than 20uA supply current and less than 1uA (See Datasheet)", 6 PROG (in) "Charge Current Program and Charge Current Monitor Pin. Connecting a 1% resistor, RPROG, to ground programs the charge current. When charging in constant-current mode, this pin servos to 1V.", 7 EP (power) "Ground. The Exposed Pad must be soldered to the PCB ground to provide both electrical contact and rated thermal performance."